# Altium footprint library APSS Prototype Parts.PcbLib: 96 footprints (part 1 of 6)
Each footprint in its own frame and in the unit in brackets; x right, y up, seen from the top. Pads: shape width x height; smd on the part's side, far side on the other; paste and mask are expansions set on the pad; w line width, h text height; cw(c..) or ccw(c..) is an arc to the next point about the centre after c.
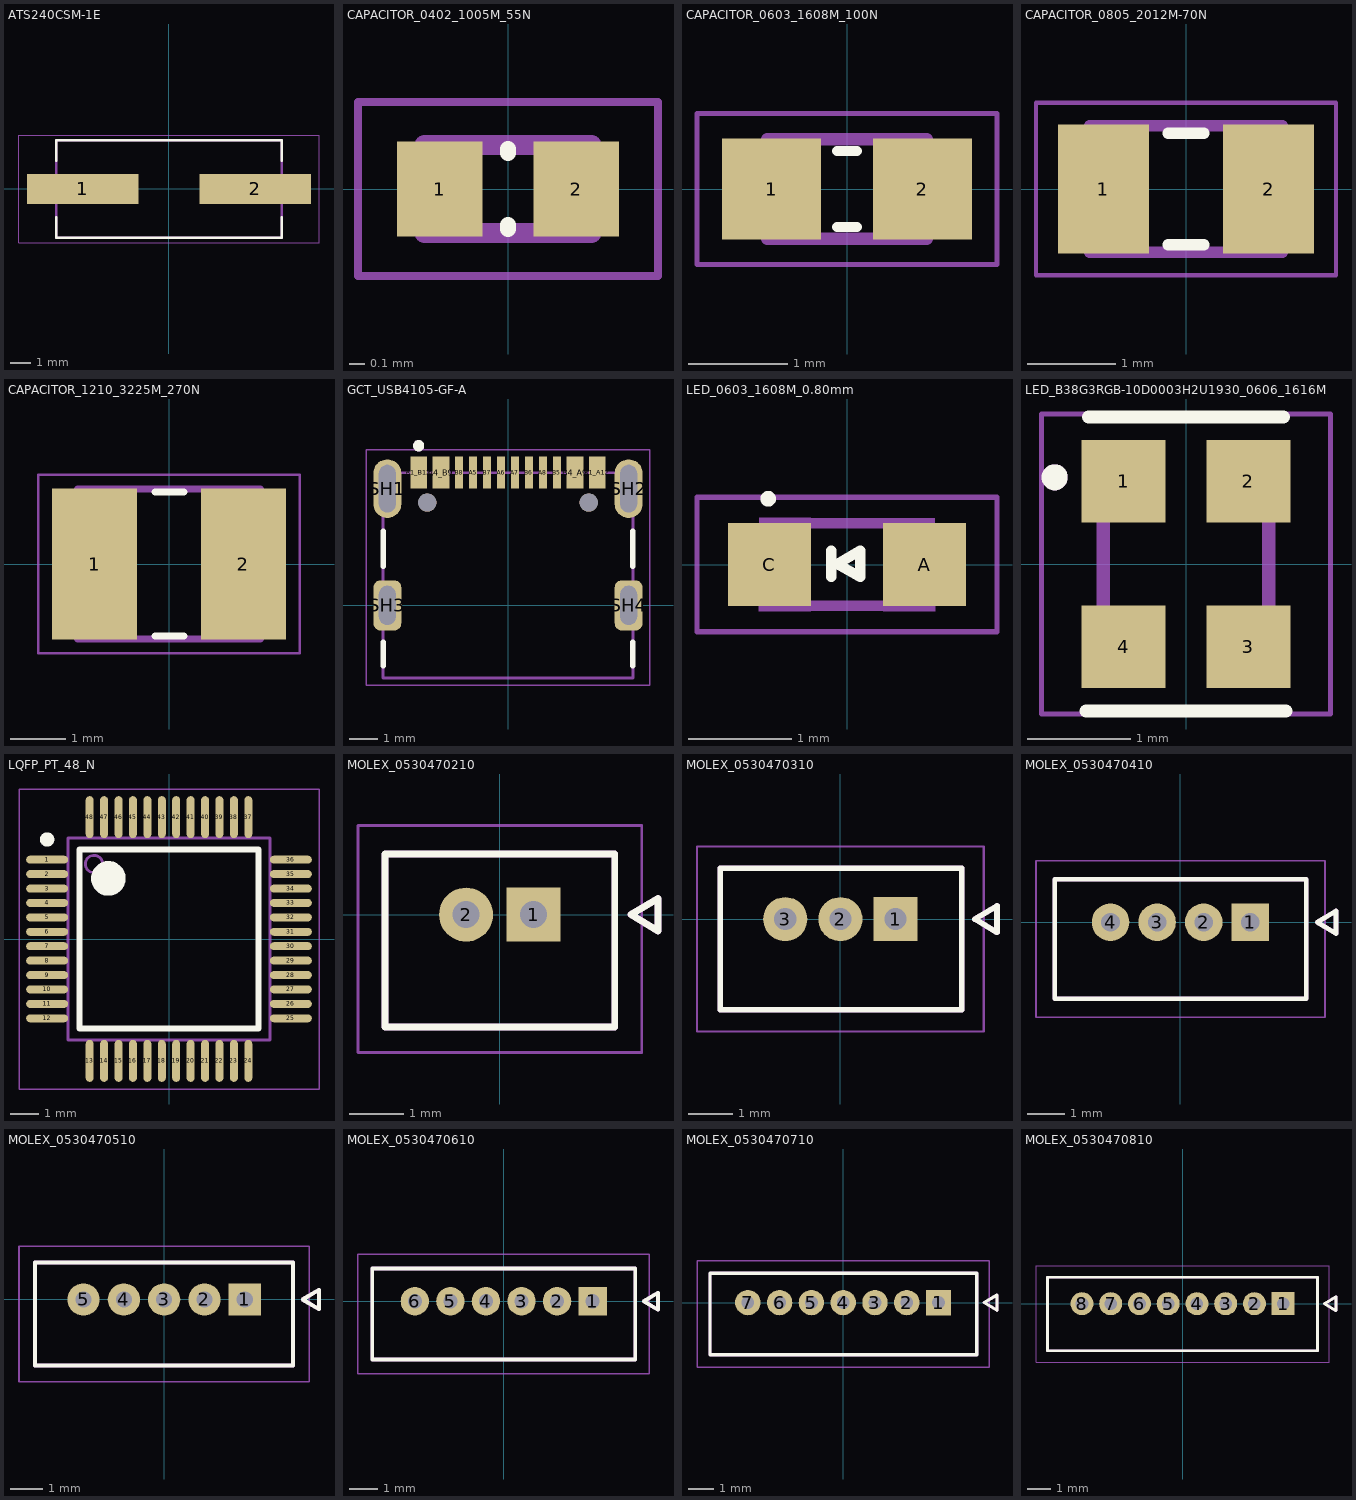
[diagram p0: the footprints below, top view; thin cyan lines are the x and y axes]

## ATS240CSM-1E [mm]
height 4.3
pads (2):
  rect 5.5x1.5 smd: 1(-4.25,0) 2(4.25,0)
Top Overlay:
  lines w0.127: -5.55,-1.4 -5.55,-2.4 5.55,-2.4 5.55,-1.4 ; -5.55,1.4 -5.55,2.4 ; -5.55,1.4 -5.55,2.4 ; 5.55,1.4 5.55,2.4 -5.55,2.4
Mechanical 13:
  lines w0.127: -6.15,-0.35 -2.45,-0.35 -2.45,0.35 -6.15,0.35 -6.15,-0.35 ; -5.555,-2.409 5.545,-2.409 5.545,2.391 -5.555,2.391 -5.555,-2.409 ; 2.45,-0.35 2.45,0.35 6.15,0.35 6.15,-0.35 2.45,-0.35
Mechanical 15:
  lines w0.05: -7.387,-2.65 7.387,-2.65 7.387,2.65 7.137,2.65 -7.137,2.65 -7.387,2.65 -7.387,-2.65
3D body: height 4.3, standoff 0.05, extent -5.55,-2.4 5.55,2.4
3D body: height 0.3, standoff 0, extent 2.45,-0.35 6.15,0.35
3D body: height 0.3, standoff 0, extent -6.151,-0.349 -2.451,0.351

## CAPACITOR_0402_1005M_55N [mm] "Capacitor, 0402 (1005 metric), 0.55mm height, nominal pads"
height 0.55
pads (2):
  rect 0.54x0.6 smd mask+0.051: 1(-0.432,0) 2(0.432,0)
Top Overlay:
  lines w0.1: 0,-0.254 0,-0.229 ; 0,0.229 0,0.254
Mechanical 13:
  lines w0.127: -0.53,-0.28 0.53,-0.28 0.53,0.28 -0.53,0.28 -0.53,-0.28
Mechanical 15:
  lines w0.05: -0.95,-0.55 0.95,-0.55 0.95,0.55 -0.95,0.55 -0.95,-0.55
3D body "GCM1555C1H102FA16D.step": height 0.48, standoff -0.02, extent -0.5,-0.279 0.5,0.271

## CAPACITOR_0603_1608M_100N [mm] "Capacitor, 0603 (1608 metric), 1mm high, nominal pads"
height 1
pads (2):
  rect 1x1.02 smd mask+0.051: 1(-0.759,0) 2(0.759,0)
Top Overlay:
  lines w0.1: -0.102,-0.381 0.102,-0.381 ; -0.102,0.381 0.102,0.381
Mechanical 13:
  lines w0.127: -0.8,-0.5 -0.8,0.5 0.8,0.5 0.8,-0.5 -0.8,-0.5
Mechanical 15:
  lines w0.05: -1.508,-0.758 -1.508,0.758 1.508,0.758 1.508,-0.758 -1.508,-0.758
3D body "GRM188Z71A106KA73D.step": height 0.78, standoff -0.02, extent -0.8,-0.5 0.8,0.5

## CAPACITOR_0805_2012M-70N [mm] "Capacitor, 0805 (2012 metric), 0.7mm high, nominal pads,"
height 0.5
pads (2):
  rect 1.04x1.47 smd mask+0.051: 1(-0.94,0) 2(0.94,0)
Top Overlay:
  lines w0.127: -0.203,-0.635 0.203,-0.635 ; -0.203,0.635 0.203,0.635
Mechanical 13:
  lines w0.127: -1.1,-0.72 1.1,-0.72 1.1,0.72 -1.1,0.72 -1.1,-0.72
Mechanical 15:
  lines w0.05: -1.708,-0.983 1.708,-0.983 1.708,0.983 -1.708,0.983 -1.708,-0.983
3D body "GCM2165C2A122JA16J.STEP": height 1.23, standoff -0.02, extent -1,-0.725 1,0.725

## CAPACITOR_1210_3225M_270N [mm] "Capacitor, 1210 (3225 metric), 2.7mm high, nominal pads"
height 2.7
pads (2):
  rect 1.53x2.72 smd: 1(-1.341,0) 2(1.341,0)
Top Overlay:
  lines w0.127: -0.254,-1.295 0.266,-1.295 ; -0.254,1.295 0.266,1.295
Mechanical 13:
  lines w0.127: -1.651,-1.35 1.651,-1.35 1.651,1.35 -1.651,1.35 -1.651,-1.35
Mechanical 15:
  lines w0.05: -2.355,-1.608 2.355,-1.608 2.355,1.608 -2.355,1.608 -2.355,-1.608
3D body "GRM32ER61A107ME20L.step": height 2.48, standoff -0.02, extent -1.6,-1.397 1.6,1.303

## GCT_USB4105-GF-A [mm]
height 3.31
pads (18):
  rect 0.595x1.15 smd mask+0.051: A1_B12(-3.2,4.755) A4_B9(-2.4,4.755) B1_A12(3.2,4.755) B4_A9(2.4,4.755)
  rect 0.295x1.15 smd mask+0.051: A5(-1.25,4.755) A6(-0.25,4.755) A7(0.25,4.755) A8(1.25,4.755) B5(1.75,4.755) B6(0.75,4.755) B7(-0.75,4.755) B8(-1.75,4.755)
  oval 1x2.1 hole 0.6 slot 1.7 at 90 deg: SH1(-4.32,4.18) SH2(4.32,4.18)
  rrect50% 1x1.8 hole 0.6 slot 1.4 at 90 deg: SH3(-4.32,0) SH4(4.32,0)
  round 0.65 hole 0.65 unplated mask+0: ""(-2.89,3.68) ""(2.89,3.68)
Top Overlay:
  circle w0.2: c-3.2,5.715 r0.1
  lines w0.2: -4.47,-2.159 -4.47,-1.32 ; -4.47,1.4 -4.47,2.65 ; 4.47,-2.159 4.47,-1.32 ; 4.47,1.4 4.47,2.65
Mechanical 13:
  circle w0.2: c-3.2,5.715 r0.1
  lines w0.1: -4.47,-2.6 -4.47,4.75 4.47,4.75 4.47,-2.6 -4.47,-2.6
  text "PCB EDGE" at -1.4,-2.4 h0.41
Mechanical 15:
  lines w0.05: -5.07,-2.85 5.07,-2.85 5.07,5.58 -5.07,5.58 -5.07,-2.85
3D body "step_temp.STEP": height 3.31, standoff -1.1, extent -4.47,-2.6 4.47,5.11

## LED_0603_1608M_0.80mm [mm] "LED, 0603 (1608 metric), 0.8mm high"
height 0.8
pads (2):
  rect 0.8x0.8 smd mask+0.051: A(0.75,0) C(-0.75,0)
Top Overlay:
  circle w0.1: c-0.762,0.635 r0.025
  lines w0.1: -0.152,-0.12 -0.152,0.134 ; -0.093,0.007 0.127,-0.12 0.127,0.134 -0.093,0.007
Mechanical 13:
  circle w0.051: c-0.625,-0.35 r0.075
  region: -0.7,-0.451 -0.851,-0.451 -0.851,-0.25 -0.7,-0.25
  region: -0.55,-0.276 -0.601,-0.276 -0.601,-0.225 -0.55,-0.225
  region: -0.35,-0.45 -0.725,-0.45 -0.725,-0.4 -0.35,-0.4
  region: -0.551,0.25 -0.85,0.25 -0.85,0.451 -0.551,0.451
  region: -0.351,-0.451 -0.576,-0.451 -0.576,0.451 -0.351,0.451
  region: 0.851,-0.45 0.35,-0.45 0.35,-0.251 0.851,-0.251
  region: 0.85,0.25 0.35,0.25 0.35,0.45 0.85,0.45
  region: 0.575,-0.275 0.35,-0.275 0.35,0.275 0.575,0.275
  region: 0.65,-0.275 0.55,-0.275 0.55,-0.175 0.65,-0.175
  region: 0.65,0.175 0.55,0.175 0.55,0.275 0.65,0.275
  lines w0.051: 0.825,-0.275 cw(c0.825,0) 0.825,0.275
  lines w0.102: -0.8,-0.3 ccw(c-0.826,0) -0.8,0.3 ; -0.375,-0.4 0.35,-0.4 ; -0.35,0.4 0.35,0.4
Mechanical 15:
  lines w0.05: -1.45,-0.65 1.45,-0.65 1.45,0.65 -1.45,0.65 -1.45,-0.65
3D body "step_temp.STEP": height 0.8, standoff 0, extent -0.8,-0.4 0.8,0.4

## LED_B38G3RGB-10D0003H2U1930_0606_1616M [mm] "RGB LED, 0606 (1616 metric), 0.4mm high"
height 0.4
pads (4):
  rect 0.813x0.8 smd mask+0.051: 1(-0.602,0.8) 2(0.602,0.8) 3(0.602,-0.8) 4(-0.602,-0.8)
Top Overlay:
  circle w0.2: c-1.27,0.838 r0.025
  lines w0.127: -0.965,-1.422 0.965,-1.422 ; -0.94,1.422 0.94,1.422
Mechanical 13:
  circle w0.2: c-1.27,0.838 r0.025
  lines w0.127: -0.8,-0.8 -0.8,0.8 ; 0.8,-0.8 0.8,0.8
Mechanical 15:
  lines w0.05: -1.397,-1.45 1.397,-1.45 1.397,1.45 -1.397,1.45 -1.397,-1.45
3D body "step_temp.STEP": height 0.4, standoff 0, extent -0.8,-0.8 0.8,0.8

## LQFP_PT_48_N [mm]
pads (48):
  oval 1.45x0.28 smd paste+0 mask+0.051: 1(-4.225,2.75) 2(-4.225,2.25) 3(-4.225,1.75) 4(-4.225,1.25) 5(-4.225,0.75) 6(-4.225,0.25) 7(-4.225,-0.25) 8(-4.225,-0.75) 9(-4.225,-1.25) 10(-4.225,-1.75) 11(-4.225,-2.25) 12(-4.225,-2.75) 25(4.225,-2.75) 26(4.225,-2.25) 27(4.225,-1.75) 28(4.225,-1.25) 29(4.225,-0.75) 30(4.225,-0.25) 31(4.225,0.25) 32(4.225,0.75) 33(4.225,1.25) 34(4.225,1.75) 35(4.225,2.25) 36(4.225,2.75)
  oval 0.28x1.45 smd paste+0 mask+0.051: 13(-2.75,-4.225) 14(-2.25,-4.225) 15(-1.75,-4.225) 16(-1.25,-4.225) 17(-0.75,-4.225) 18(-0.25,-4.225) 19(0.25,-4.225) 20(0.75,-4.225) 21(1.25,-4.225) 22(1.75,-4.225) 23(2.25,-4.225) 24(2.75,-4.225) 37(2.75,4.225) 38(2.25,4.225) 39(1.75,4.225) 40(1.25,4.225) 41(0.75,4.225) 42(0.25,4.225) 43(-0.25,4.225) 44(-0.75,4.225) 45(-1.25,4.225) 46(-1.75,4.225) 47(-2.25,4.225) 48(-2.75,4.225)
Top Overlay:
  circle w0.6: c-2.1,2.1 r0.3
  circle w0.25: c-4.225,3.45 r0.125
  lines w0.2: -3.1,-3.1 3.1,-3.1 3.1,3.1 -3.1,3.1 -3.1,-3.1
Mechanical 13:
  circle w0.1: c-2.6,2.6 r0.3
  lines w0.1: -3.5,-3.5 3.5,-3.5 3.5,3.5 -3.5,3.5 -3.5,-3.5
Mechanical 15:
  lines w0.05: -5.2,-5.2 5.2,-5.2 5.2,5.2 -5.2,5.2 -5.2,-5.2
3D body "MSP430FR2355TPT.STEP": height 1.6, standoff 0, extent -4.5,-4.5 4.5,4.5

## MOLEX_0530470210 [mm]
height 4.2
pads (2):
  rect 1x1 hole 0.5 mask+0.051: 1(0.625,0)
  round 1 hole 0.5 mask+0.051: 2(-0.625,0)
Top Overlay:
  lines w0.127: -2.125,-2.075 -2.125,1.125 2.125,1.125 2.125,-2.075 -2.125,-2.075 ; 2.425,0 2.925,0.3 2.925,-0.3 2.425,0
Mechanical 13:
  lines w0.127: -2.125,-2.075 2.125,-2.075 2.125,1.125 -2.125,1.125 -2.125,-2.075 ; 2.425,0 2.925,0.3 2.925,-0.3 2.425,0
Mechanical 15:
  lines w0.05: -2.625,-2.55 -2.625,1.65 2.625,1.65 2.625,-2.55 -2.625,-2.55
3D body "530470210.stp": height 4.21, standoff -2.29, extent -2.125,-2.057 2.125,1.143

## MOLEX_0530470310 [mm] "Header - Picoblade 03-pin, TH, STR, 4.2mm height"
height 4.2
pads (3):
  rect 1x1 hole 0.5 mask+0.051: 1(1.25,0)
  round 1 hole 0.5 mask+0.051: 2(0,0) 3(-1.25,0)
Top Overlay:
  lines w0.127: -2.725,-2.05 2.75,-2.05 2.75,1.15 -2.725,1.15 -2.725,-2.05 ; 3.05,0 3.55,0.3 3.55,-0.3 3.05,0
Mechanical 13:
  lines w0.127: -2.725,-2.05 2.75,-2.05 2.75,1.15 -2.725,1.15 -2.725,-2.05 ; 3.05,0 3.55,0.3 3.55,-0.3 3.05,0
Mechanical 15:
  lines w0.05: -3.25,-2.55 -3.25,1.65 3.25,1.65 3.25,-2.55 -3.25,-2.55
3D body "530470310.stp": height 4.21, standoff -2.29, extent -2.753,-2.057 2.747,1.143

## MOLEX_0530470410 [mm]
height 4.2
pads (4):
  rect 1.008x1.008 hole 0.5 mask+0.051: 1(1.875,0)
  round 1.008 hole 0.5 mask+0.051: 2(0.625,0) 3(-0.625,0) 4(-1.875,0)
Top Overlay:
  lines w0.127: -3.375,-2.05 3.375,-2.05 3.375,1.15 -3.375,1.15 -3.375,-2.05 ; 3.675,0 4.175,0.3 4.175,-0.3 3.675,0
Mechanical 13:
  lines w0.127: -3.375,-2.05 3.375,-2.05 3.375,1.15 -3.375,1.15 -3.375,-2.05 ; 3.675,0 4.175,0.3 4.175,-0.3 3.675,0
Mechanical 15:
  lines w0.05: -3.875,-2.55 3.875,-2.55 3.875,1.65 -3.875,1.65 -3.875,-2.55
3D body "530470410.stp": height 4.21, standoff -2.29, extent -3.375,-2.057 3.375,1.143

## MOLEX_0530470510 [mm] "Header - Picoblade 05-pin, TH, STR, 4.2mm height"
height 4.2
pads (5):
  rect 1x1 hole 0.5 mask+0.051: 1(2.5,0)
  round 1 hole 0.5 mask+0.051: 2(1.25,0) 3(0,0) 4(-1.25,0) 5(-2.5,0)
Top Overlay:
  lines w0.127: -4.002,-2.05 4,-2.05 4,1.15 -4.002,1.15 -4.002,-2.05 ; 4.3,0 4.8,0.3 4.8,-0.3 4.3,0
Mechanical 13:
  lines w0.127: -4.002,-2.05 -4.002,1.15 4,1.15 4,-2.05 -4.002,-2.05 ; 4.3,0 4.8,0.3 4.8,-0.3 4.3,0
Mechanical 15:
  lines w0.05: -4.5,-2.55 4.5,-2.55 4.5,1.65 -4.5,1.65 -4.5,-2.55
3D body "0530470510.step": height 4.21, standoff -2.29, extent -4.015,-2.057 3.985,1.143

## MOLEX_0530470610 [mm]
height 4.2
pads (6):
  rect 1x1 hole 0.5 mask+0.051: 1(3.125,0)
  round 1 hole 0.5 mask+0.051: 2(1.875,0) 3(0.625,0) 4(-0.625,0) 5(-1.875,0) 6(-3.125,0)
Top Overlay:
  lines w0.127: -4.625,-2.05 -4.625,1.15 4.625,1.15 4.625,-2.05 -4.625,-2.05 ; 4.925,0 5.425,0.3 5.425,-0.3 4.925,0
Mechanical 13:
  lines w0.127: -4.625,-2.05 -4.625,1.15 4.625,1.15 4.625,-2.05 -4.625,-2.05 ; 4.925,0 5.425,0.3 5.425,-0.3 4.925,0
Mechanical 15:
  lines w0.05: -5.125,-2.55 5.125,-2.55 5.125,1.65 -5.125,1.65 -5.125,-2.55
3D body "530470610.stp": height 4.21, standoff -2.29, extent -4.675,-2.057 4.575,1.143

## MOLEX_0530470710 [mm] "Header - Picoblade 07-pin, TH, STR, 4.2mm height"
height 4.2
pads (7):
  rect 1x1 hole 0.5 mask+0.051: 1(3.75,0)
  round 1 hole 0.5 mask+0.051: 2(2.5,0) 3(1.25,0) 4(0,0) 5(-1.25,0) 6(-2.5,0) 7(-3.75,0)
Top Overlay:
  lines w0.127: -5.242,-2.05 -5.242,1.15 5.25,1.15 5.25,-2.05 -5.242,-2.05 ; 5.55,0 6.05,0.3 6.05,-0.3 5.55,0
Mechanical 13:
  lines w0.127: -5.242,-2.05 -5.242,1.15 5.25,1.15 5.25,-2.05 -5.242,-2.05 ; 5.55,0 6.05,0.3 6.05,-0.3 5.55,0
Mechanical 15:
  lines w0.05: -5.75,-2.55 5.75,-2.55 5.75,1.65 -5.75,1.65 -5.75,-2.55
3D body "530470710.stp": height 4.21, standoff -2.29, extent -5.259,-2.057 5.241,1.143

## MOLEX_0530470810 [mm]
height 4.2
pads (8):
  rect 1x1 hole 0.55 mask+0.051: 1(4.375,0)
  round 1 hole 0.55 mask+0.051: 2(3.125,0) 3(1.875,0) 4(0.625,0) 5(-0.625,0) 6(-1.875,0) 7(-3.125,0) 8(-4.375,0)
Top Overlay:
  lines w0.127: -5.875,-2.05 5.875,-2.05 5.875,1.15 -5.875,1.15 -5.875,-2.05 ; 6.175,0 6.675,-0.3 6.675,0.3 6.175,0
Mechanical 13:
  lines w0.127: -5.875,-2.05 5.875,-2.05 5.875,1.15 -5.875,1.15 -5.875,-2.05 ; 6.175,0 6.675,-0.3 6.675,0.3 6.175,0
Mechanical 15:
  lines w0.05: -6.375,-2.55 -6.375,1.65 6.375,1.65 6.375,-2.55 -6.375,-2.55
3D body "step_temp.STEP": height 4.2, standoff -2.3, extent -5.875,-2.05 5.875,1.15